# EAGLE library part MEGA168 (library Jim)
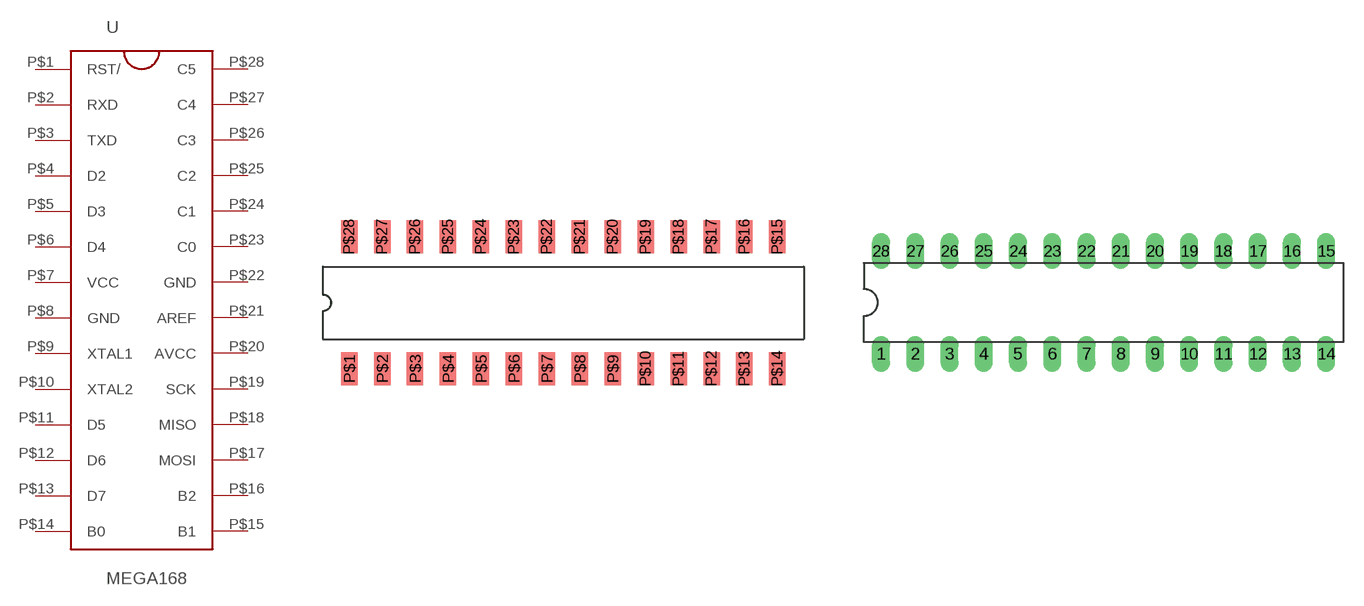
[diagram p9: symbol with the pads of DIL28-3; footprints DIL28-3, DIP28-3]

Designator prefix -

## MEGA168DIPNOHOLES  [DIL28-3]
P$1  RST/
P$2  RXD
P$3  TXD
P$4  D2
P$5  D3
P$6  D4
P$7  VCC  pwr
P$8  GND  pwr
P$9  XTAL1
P$10  XTAL2
P$11  D5
P$12  D6
P$13  D7
P$14  B0
P$15  B1
P$16  B2
P$17  MOSI
P$18  MISO
P$19  SCK
P$20  AVCC  pwr
P$21  AREF  pwr
P$22  GND  pwr
P$23  C0
P$24  C1
P$25  C2
P$26  C3
P$27  C4
P$28  C5

## MEGA168DIPWITHHOLES  [DIP28-3]
1  RST/
2  RXD
3  TXD
4  D2
5  D3
6  D4
7  VCC  pwr
8  GND  pwr
9  XTAL1
10  XTAL2
11  D5
12  D6
13  D7
14  B0
15  B1
16  B2
17  MOSI
18  MISO
19  SCK
20  AVCC  pwr
21  AREF  pwr
22  GND  pwr
23  C0
24  C1
25  C2
26  C3
27  C4
28  C5

## Footprint DIL28-3 (pad centres in mm)
Dual In Line 0.3 inch
smd 1.27 x 2.54: P$1 -16.51,-5.08; P$2 -13.97,-5.08; P$3 -11.43,-5.08; P$4 -8.89,-5.08; P$5 -6.35,-5.08; P$6 -3.81,-5.08; P$7 -1.27,-5.08; P$8 1.27,-5.08; P$9 3.81,-5.08; P$10 6.35,-5.08; P$11 8.89,-5.08; P$12 11.43,-5.08; P$13 13.97,-5.08; P$14 16.51,-5.08; P$15 16.51,5.08; P$16 13.97,5.08; P$17 11.43,5.08; P$18 8.89,5.08; P$19 6.35,5.08; P$20 3.81,5.08; P$21 1.27,5.08; P$22 -1.27,5.08; P$23 -3.81,5.08; P$24 -6.35,5.08; P$25 -8.89,5.08; P$26 -11.43,5.08; P$27 -13.97,5.08; P$28 -16.51,5.08

## Footprint DIP28-3 (pad centres in mm)
drill 0.813 long: 1 -16.51,-3.81; 2 -13.97,-3.81; 3 -11.43,-3.81; 4 -8.89,-3.81; 5 -6.35,-3.81; 6 -3.81,-3.81; 7 -1.27,-3.81; 8 1.27,-3.81; 9 3.81,-3.81; 10 6.35,-3.81; 11 8.89,-3.81; 12 11.43,-3.81; 13 13.97,-3.81; 14 16.51,-3.81; 15 16.51,3.81; 16 13.97,3.81; 17 11.43,3.81; 18 8.89,3.81; 19 6.35,3.81; 20 3.81,3.81; 21 1.27,3.81; 22 -1.27,3.81; 23 -3.81,3.81; 24 -6.35,3.81; 25 -8.89,3.81; 26 -11.43,3.81; 27 -13.97,3.81; 28 -16.51,3.81